# Altium schematic symbol library SCH - POWER - SWITCHMODE - TI LP87322RHD.SchLib: 1 symbol
Pins are listed as number, name and electrical type; pins without a type are passive.

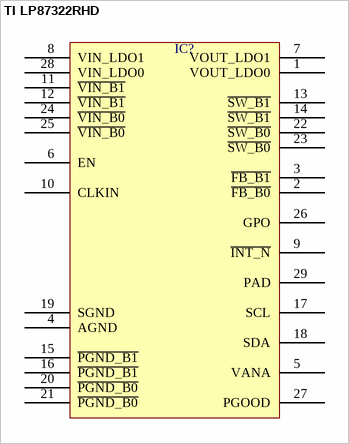
[diagram p0: symbol TI LP87322RHD]

## TI LP87322RHD
designator IC?  (value not drawn)
pins: 1 VOUT_LDO0, 2 ~{FB_B0}, 3 ~{FB_B1}, 4 AGND, 5 VANA, 6 EN, 7 VOUT_LDO1, 8 VIN_LDO1, 9 ~{INT_N}, 10 CLKIN, 11 ~{VIN_B1}, 12 ~{VIN_B1}, 13 ~{SW_B1}, 14 ~{SW_B1}, 15 ~{PGND_B1}, 16 ~{PGND_B1}, 17 SCL, 18 SDA, 19 SGND, 20 ~{PGND_B0}, 21 ~{PGND_B0}, 22 ~{SW_B0}, 23 ~{SW_B0}, 24 ~{VIN_B0}, 25 ~{VIN_B0}, 26 GPO, 27 PGOOD, 28 VIN_LDO0, 29 PAD